# Altium footprint library TSS-106-XX-YYY-D.PcbLib: 1 footprints
Each footprint in its own frame and in the unit in brackets; x right, y up, seen from the top. Pads: shape width x height; smd on the part's side, far side on the other; paste and mask are expansions set on the pad; w line width, h text height; cw(c..) or ccw(c..) is an arc to the next point about the centre after c.
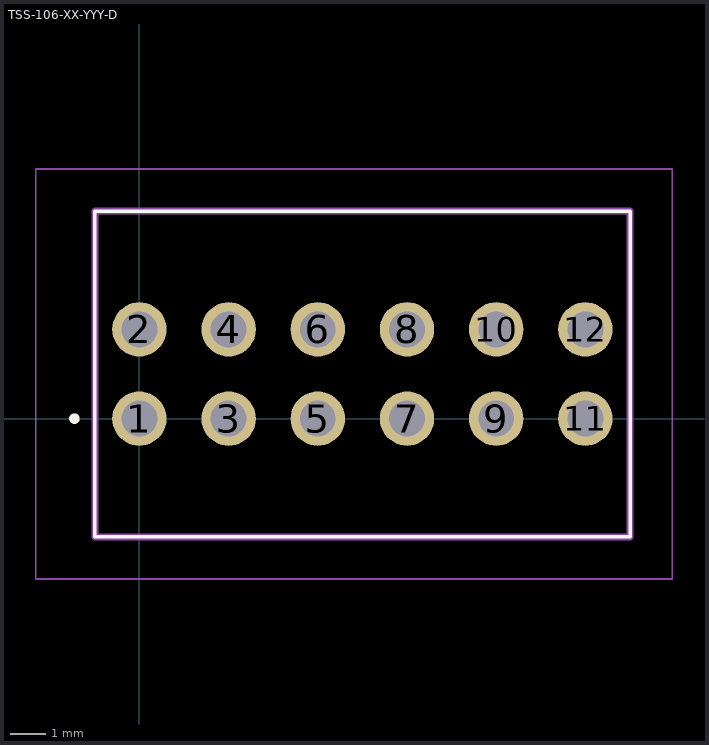
[diagram p0: the footprint, top view; thin cyan lines are the x and y axes]

## TSS-106-XX-YYY-D [mm]
pads (12):
  round 1.55 hole 1.02: 1(0,0) 2(0,2.54) 3(2.54,0) 4(2.54,2.54) 5(5.08,0) 6(5.08,2.54) 7(7.62,0) 8(7.62,2.54) 9(10.16,0) 10(10.16,2.54) 11(12.7,0) 12(12.7,2.54)
Top Overlay:
  circle w0.2: c-1.85,0 r0.05
  lines w0.1: -1.27,-3.365 13.97,-3.365 13.97,5.905 -1.27,5.905 -1.27,-3.365
Mechanical 15:
  lines w0.2: -1.27,-3.365 13.97,-3.365 13.97,5.905 -1.27,5.905 -1.27,-3.365
Mechanical 20:
  lines w0.05: -2.95,-4.565 15.17,-4.565 15.17,7.105 -2.95,7.105 -2.95,-4.565